# Altium schematic symbol library 12V SMPS.SchLib: 5 symbols
Pins are listed as number, name and electrical type; pins without a type are passive.

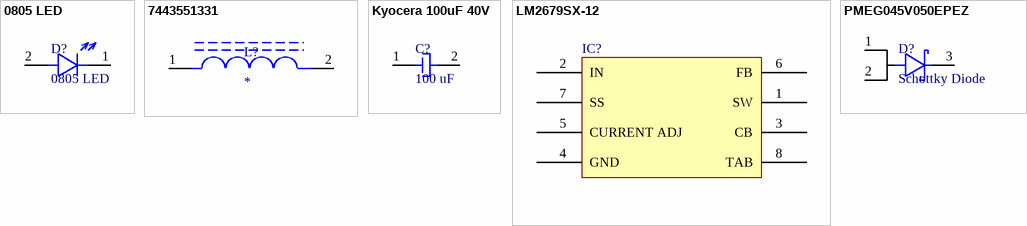
[diagram p0: symbols 0805 LED to PMEG045V050EPEZ]

## 0805 LED
designator D?
Wurth Electronics 150080VS75000
footprint 0805 LED (Wurth Electronics / 150080VS75000)
pins: 1 Cathode, 2 Anode

## 7443551331
designator L?
Wurth Electronics 7443551331
footprint 7443551331 33uH (Wurth Electronics 7443551331 33uH)
pins: 1, 2

## Kyocera 100uF 40V
designator C?, comment 100 uF
Kyocera AHA1010101M040R
footprint AHA1010101M040R
pins: 1, 2

## LM2679SX-12
designator IC?
LM2679SX-12/NOPB
footprint TS7B_M (D2-PAK, 8-Leads, Body 8.6x10.2mm, Pitch 1.27mm, Lead Span 14.1mm, IPC Low Density)
pins: 1 SW, 2 IN, 3 CB, 4 GND, 5 CURRENT ADJ, 6 FB, 7 SS, 8 TAB

## PMEG045V050EPEZ
designator D?, comment Schottky Diode
PMEG045V050EPEZ
footprint PMEG045V050EPE
pins: 1 Anode, 2 Anode, 3 Cathode